# Altium schematic symbol library MULTIPART_A.SchLib: 1 symbol
Pins are listed as number, name and electrical type; pins without a type are passive.

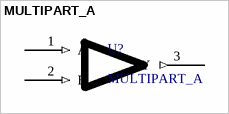
[diagram p0: symbol MULTIPART_A]

## MULTIPART_A
designator U?
Multi-part symbol A
pins: 1 A (in), 2 B (in), 3 Y (out)